# Altium integrated library Capacitors - Ceramic - 0201.IntLib: 1723 symbols (part 18 of 38)
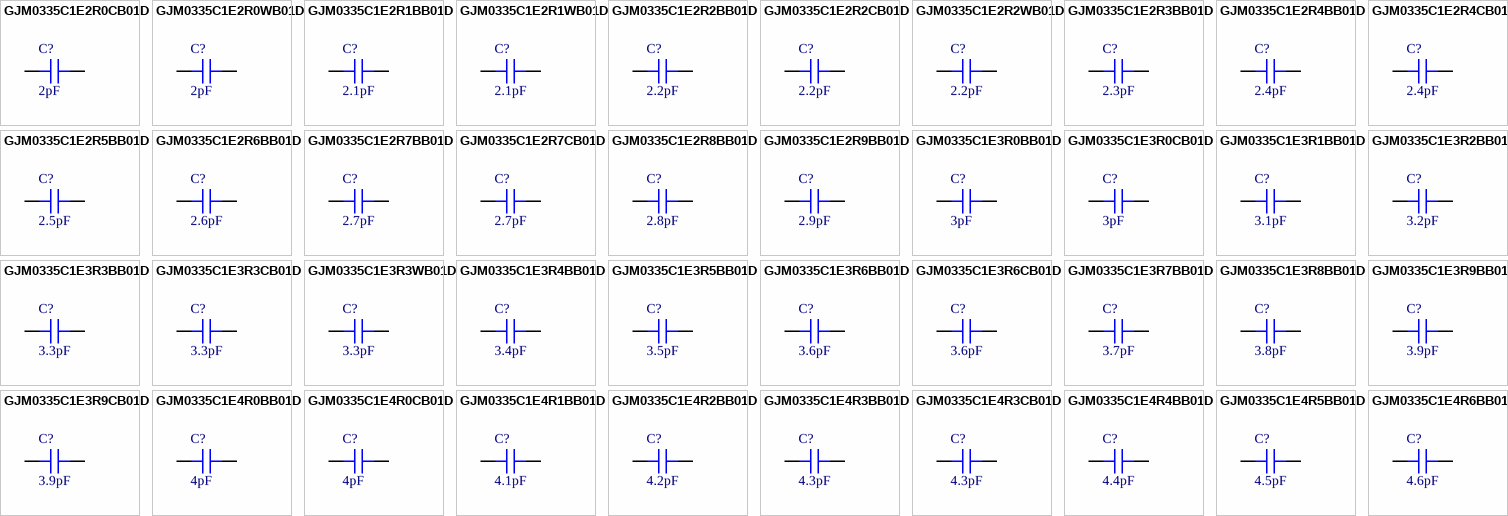
[diagram p60: symbols GJM0335C1E2R0CB01D to GJM0335C1E4R6BB01D]

## GJM0335C1E3R3BB01D
designator C?, comment 3.3pF
CAP CER 3.3PF 25V C0G/NP0 0201; Part Number: GJM0335C1E3R3BB01D; Manufacturer: Murata Electronics; Temperature Coefficient: C0G, NP0; Tolerance: ±0.1pF; Value: 3.3pF; Applications: RF, Microwave, High Frequency; Capacitance: 3.3pF; ComponentLink1Description: Datasheet; ComponentLink1URL: https://search.murata.co.jp/Ceramy/image/img/A01X/G101/ENG/GJM0335C1E3R3BB01-01.pdf; ComponentLink2Description: DigiKey Link; ComponentLink2URL: http://digikey.com/product-detail/en/murata-electronics/GJM0335C1E3R3BB01D/490-12594-1-ND/5797575; Device Package: 0201 (0603 Metric); Features: High Q, Low Loss; LastUpdated: 9/2/2020 12:58:31 AM; Lifecycle Status: Active; Minimum Order: 1; Mounting Type: Surface Mount, MLCC; Operating Temperature: -55°C ~ 125°C; Package / Case: 0201 (0603 Metric); Packaging: TapeAndReel; PartId: 1270; Part Status: Active; Price: 0.02; Series: GJM; Size / Dimension: 0.024" L x 0.012" W (0.60mm x 0.30mm); Supplier 1: DigiKey; Supplier Part Number 1: 490-12594-1-ND; Thickness (Max): 0.013" (0.33mm); Voltage - Rated: 25V
footprint CAP 0201_0603
pins: 1, 2

## GJM0335C1E3R3CB01D
designator C?, comment 3.3pF
CAP CER 3.3PF 25V C0G/NP0 0201; Part Number: GJM0335C1E3R3CB01D; Manufacturer: Murata Electronics; Temperature Coefficient: C0G, NP0; Tolerance: ±0.25pF; Value: 3.3pF; Applications: RF, Microwave, High Frequency; Capacitance: 3.3pF; ComponentLink1Description: Datasheet; ComponentLink1URL: https://search.murata.co.jp/Ceramy/image/img/A01X/G101/ENG/GJM0335C1E3R3CB01-01.pdf; ComponentLink2Description: DigiKey Link; ComponentLink2URL: http://digikey.com/product-detail/en/murata-electronics/GJM0335C1E3R3CB01D/490-3065-1-ND/702331; Device Package: 0201 (0603 Metric); Features: High Q, Low Loss; LastUpdated: 9/2/2020 12:58:07 AM; Lifecycle Status: Active; Minimum Order: 1; Mounting Type: Surface Mount, MLCC; Operating Temperature: -55°C ~ 125°C; Package / Case: 0201 (0603 Metric); Packaging: TapeAndReel; PartId: 1525; Part Status: Active; Price: 0.01; Series: GJM; Size / Dimension: 0.024" L x 0.012" W (0.60mm x 0.30mm); Supplier 1: DigiKey; Supplier Part Number 1: 490-3065-1-ND; Thickness (Max): 0.013" (0.33mm); Voltage - Rated: 25V
footprint CAP 0201_0603
pins: 1, 2

## GJM0335C1E3R3WB01D
designator C?, comment 3.3pF
CAP CER 3.3PF 25V C0G/NP0 0201; Part Number: GJM0335C1E3R3WB01D; Manufacturer: Murata Electronics; Temperature Coefficient: C0G, NP0; Tolerance: ±0.05pF; Value: 3.3pF; Applications: RF, Microwave, High Frequency; Capacitance: 3.3pF; ComponentLink1Description: Datasheet; ComponentLink1URL: https://search.murata.co.jp/Ceramy/image/img/A01X/G101/ENG/GJM0335C1E3R3WB01-01.pdf; ComponentLink2Description: DigiKey Link; ComponentLink2URL: http://digikey.com/product-detail/en/murata-electronics/GJM0335C1E3R3WB01D/490-17792-1-ND/8540028; Device Package: 0201 (0603 Metric); Features: High Q, Low Loss; LastUpdated: 9/2/2020 12:58:24 AM; Lifecycle Status: Active; Minimum Order: 1; Mounting Type: Surface Mount, MLCC; Operating Temperature: -55°C ~ 125°C; Package / Case: 0201 (0603 Metric); Packaging: TapeAndReel; PartId: 1339; Part Status: Active; Price: 0.03; Series: GJM; Size / Dimension: 0.024" L x 0.012" W (0.60mm x 0.30mm); Supplier 1: DigiKey; Supplier Part Number 1: 490-17792-1-ND; Thickness (Max): 0.013" (0.33mm); Voltage - Rated: 25V
footprint CAP 0201_0603
pins: 1, 2

## GJM0335C1E3R4BB01D
designator C?, comment 3.4pF
CAP CER 3.4PF 25V C0G/NP0 0201; Part Number: GJM0335C1E3R4BB01D; Manufacturer: Murata Electronics; Temperature Coefficient: C0G, NP0; Tolerance: ±0.1pF; Value: 3.4pF; Applications: RF, Microwave, High Frequency; Capacitance: 3.4pF; ComponentLink1Description: Datasheet; ComponentLink1URL: https://search.murata.co.jp/Ceramy/image/img/A01X/G101/ENG/GJM0335C1E3R4BB01-01.pdf; ComponentLink2Description: DigiKey Link; ComponentLink2URL: http://digikey.com/product-detail/en/murata-electronics/GJM0335C1E3R4BB01D/490-17234-1-ND/7602233; Device Package: 0201 (0603 Metric); Features: High Q, Low Loss; LastUpdated: 9/2/2020 12:59:22 AM; Lifecycle Status: Active; Minimum Order: 1; Mounting Type: Surface Mount, MLCC; Operating Temperature: -55°C ~ 125°C; Package / Case: 0201 (0603 Metric); Packaging: TapeAndReel; PartId: 670; Part Status: Active; Price: 0.01; Series: GJM; Size / Dimension: 0.024" L x 0.012" W (0.60mm x 0.30mm); Supplier 1: DigiKey; Supplier Part Number 1: 490-17234-1-ND; Thickness (Max): 0.013" (0.33mm); Voltage - Rated: 25V
footprint CAP 0201_0603
pins: 1, 2

## GJM0335C1E3R5BB01D
designator C?, comment 3.5pF
CAP CER 3.5PF 25V C0G/NP0 0201; Part Number: GJM0335C1E3R5BB01D; Manufacturer: Murata Electronics; Temperature Coefficient: C0G, NP0; Tolerance: ±0.1pF; Value: 3.5pF; Applications: RF, Microwave, High Frequency; Capacitance: 3.5pF; ComponentLink1Description: Datasheet; ComponentLink1URL: https://search.murata.co.jp/Ceramy/image/img/A01X/G101/ENG/GJM0335C1E3R5BB01-01.pdf; ComponentLink2Description: DigiKey Link; ComponentLink2URL: http://digikey.com/product-detail/en/murata-electronics/GJM0335C1E3R5BB01D/490-17235-1-ND/7602234; Device Package: 0201 (0603 Metric); Features: High Q, Low Loss; LastUpdated: 9/2/2020 12:59:20 AM; Lifecycle Status: Active; Minimum Order: 1; Mounting Type: Surface Mount, MLCC; Operating Temperature: -55°C ~ 125°C; Package / Case: 0201 (0603 Metric); Packaging: TapeAndReel; PartId: 697; Part Status: Active; Price: 0.01; Series: GJM; Size / Dimension: 0.024" L x 0.012" W (0.60mm x 0.30mm); Supplier 1: DigiKey; Supplier Part Number 1: 490-17235-1-ND; Thickness (Max): 0.013" (0.33mm); Voltage - Rated: 25V
footprint CAP 0201_0603
pins: 1, 2

## GJM0335C1E3R6BB01D
designator C?, comment 3.6pF
CAP CER 3.6PF 25V C0G/NP0 0201; Part Number: GJM0335C1E3R6BB01D; Manufacturer: Murata Electronics; Temperature Coefficient: C0G, NP0; Tolerance: ±0.1pF; Value: 3.6pF; Applications: RF, Microwave, High Frequency; Capacitance: 3.6pF; ComponentLink1Description: Datasheet; ComponentLink1URL: https://search.murata.co.jp/Ceramy/image/img/A01X/G101/ENG/GJM0335C1E3R6BB01-01.pdf; ComponentLink2Description: DigiKey Link; ComponentLink2URL: http://digikey.com/product-detail/en/murata-electronics/GJM0335C1E3R6BB01D/490-11180-1-ND/5333020; Device Package: 0201 (0603 Metric); Features: High Q, Low Loss; LastUpdated: 9/2/2020 12:58:32 AM; Lifecycle Status: Active; Minimum Order: 1; Mounting Type: Surface Mount, MLCC; Operating Temperature: -55°C ~ 125°C; Package / Case: 0201 (0603 Metric); Packaging: TapeAndReel; PartId: 1255; Part Status: Active; Price: 0.01; Series: GJM; Size / Dimension: 0.024" L x 0.012" W (0.60mm x 0.30mm); Supplier 1: DigiKey; Supplier Part Number 1: 490-11180-1-ND; Thickness (Max): 0.013" (0.33mm); Voltage - Rated: 25V
footprint CAP 0201_0603
pins: 1, 2

## GJM0335C1E3R6CB01D
designator C?, comment 3.6pF
CAP CER 3.6PF 25V C0G/NP0 0201; Part Number: GJM0335C1E3R6CB01D; Manufacturer: Murata Electronics; Temperature Coefficient: C0G, NP0; Tolerance: ±0.25pF; Value: 3.6pF; Applications: RF, Microwave, High Frequency; Capacitance: 3.6pF; ComponentLink1Description: Datasheet; ComponentLink1URL: https://search.murata.co.jp/Ceramy/image/img/A01X/G101/ENG/GJM0335C1E3R6CB01-01.pdf; ComponentLink2Description: DigiKey Link; ComponentLink2URL: http://digikey.com/product-detail/en/murata-electronics/GJM0335C1E3R6CB01D/490-3066-1-ND/702332; Device Package: 0201 (0603 Metric); Features: High Q, Low Loss; LastUpdated: 9/2/2020 12:58:21 AM; Lifecycle Status: Active; Minimum Order: 1; Mounting Type: Surface Mount, MLCC; Operating Temperature: -55°C ~ 125°C; Package / Case: 0201 (0603 Metric); Packaging: TapeAndReel; PartId: 1373; Part Status: Active; Price: 0.01; Series: GJM; Size / Dimension: 0.024" L x 0.012" W (0.60mm x 0.30mm); Supplier 1: DigiKey; Supplier Part Number 1: 490-3066-1-ND; Thickness (Max): 0.013" (0.33mm); Voltage - Rated: 25V
footprint CAP 0201_0603
pins: 1, 2

## GJM0335C1E3R7BB01D
designator C?, comment 3.7pF
CAP CER 3.7PF 25V C0G/NP0 0201; Part Number: GJM0335C1E3R7BB01D; Manufacturer: Murata Electronics; Temperature Coefficient: C0G, NP0; Tolerance: ±0.1pF; Value: 3.7pF; Applications: RF, Microwave, High Frequency; Capacitance: 3.7pF; ComponentLink1Description: Datasheet; ComponentLink1URL: https://psearch.en.murata.com/capacitor/product/GJM0335C1E3R7BB01%23.pdf; ComponentLink2Description: DigiKey Link; ComponentLink2URL: http://digikey.com/product-detail/en/murata-electronics/GJM0335C1E3R7BB01D/490-17237-1-ND/7602236; Device Package: 0201 (0603 Metric); Features: High Q, Low Loss; LastUpdated: 9/2/2020 12:58:47 AM; Lifecycle Status: Active; Minimum Order: 1; Mounting Type: Surface Mount, MLCC; Operating Temperature: -55°C ~ 125°C; Package / Case: 0201 (0603 Metric); Packaging: TapeAndReel; PartId: 1081; Part Status: Active; Price: 0.01; Series: GJM; Size / Dimension: 0.024" L x 0.012" W (0.60mm x 0.30mm); Supplier 1: DigiKey; Supplier Part Number 1: 490-17237-1-ND; Thickness (Max): 0.013" (0.33mm); Voltage - Rated: 25V
footprint CAP 0201_0603
pins: 1, 2

## GJM0335C1E3R8BB01D
designator C?, comment 3.8pF
CAP CER 3.8PF 25V C0G/NP0 0201; Part Number: GJM0335C1E3R8BB01D; Manufacturer: Murata Electronics; Temperature Coefficient: C0G, NP0; Tolerance: ±0.1pF; Value: 3.8pF; Applications: RF, Microwave, High Frequency; Capacitance: 3.8pF; ComponentLink1Description: Datasheet; ComponentLink1URL: https://search.murata.co.jp/Ceramy/image/img/A01X/G101/ENG/GJM0335C1E3R8BB01-01.pdf; ComponentLink2Description: DigiKey Link; ComponentLink2URL: http://digikey.com/product-detail/en/murata-electronics/GJM0335C1E3R8BB01D/490-17238-1-ND/7602237; Device Package: 0201 (0603 Metric); Features: High Q, Low Loss; LastUpdated: 9/2/2020 12:59:22 AM; Lifecycle Status: Active; Minimum Order: 1; Mounting Type: Surface Mount, MLCC; Operating Temperature: -55°C ~ 125°C; Package / Case: 0201 (0603 Metric); Packaging: TapeAndReel; PartId: 675; Part Status: Active; Price: 0.01; Series: GJM; Size / Dimension: 0.024" L x 0.012" W (0.60mm x 0.30mm); Supplier 1: DigiKey; Supplier Part Number 1: 490-17238-1-ND; Thickness (Max): 0.013" (0.33mm); Voltage - Rated: 25V
footprint CAP 0201_0603
pins: 1, 2

## GJM0335C1E3R9BB01D
designator C?, comment 3.9pF
CAP CER 3.9PF 25V C0G/NP0 0201; Part Number: GJM0335C1E3R9BB01D; Manufacturer: Murata Electronics; Temperature Coefficient: C0G, NP0; Tolerance: ±0.1pF; Value: 3.9pF; Applications: RF, Microwave, High Frequency; Capacitance: 3.9pF; ComponentLink1Description: Datasheet; ComponentLink1URL: https://search.murata.co.jp/Ceramy/image/img/A01X/G101/ENG/GJM0335C1E3R9BB01-01.pdf; ComponentLink2Description: DigiKey Link; ComponentLink2URL: http://digikey.com/product-detail/en/murata-electronics/GJM0335C1E3R9BB01D/490-11181-1-ND/5333021; Device Package: 0201 (0603 Metric); Features: High Q, Low Loss; LastUpdated: 9/2/2020 12:58:32 AM; Lifecycle Status: Active; Minimum Order: 1; Mounting Type: Surface Mount, MLCC; Operating Temperature: -55°C ~ 125°C; Package / Case: 0201 (0603 Metric); Packaging: TapeAndReel; PartId: 1256; Part Status: Active; Price: 0.01; Series: GJM; Size / Dimension: 0.024" L x 0.012" W (0.60mm x 0.30mm); Supplier 1: DigiKey; Supplier Part Number 1: 490-11181-1-ND; Thickness (Max): 0.013" (0.33mm); Voltage - Rated: 25V
footprint CAP 0201_0603
pins: 1, 2

## GJM0335C1E3R9CB01D
designator C?, comment 3.9pF
CAP CER 3.9PF 25V C0G/NP0 0201; Part Number: GJM0335C1E3R9CB01D; Manufacturer: Murata Electronics; Temperature Coefficient: C0G, NP0; Tolerance: ±0.25pF; Value: 3.9pF; Applications: RF, Microwave, High Frequency; Capacitance: 3.9pF; ComponentLink1Description: Datasheet; ComponentLink1URL: https://search.murata.co.jp/Ceramy/image/img/A01X/G101/ENG/GJM0335C1E3R9CB01-01.pdf; ComponentLink2Description: DigiKey Link; ComponentLink2URL: http://digikey.com/product-detail/en/murata-electronics/GJM0335C1E3R9CB01D/490-3067-1-ND/702333; Device Package: 0201 (0603 Metric); Features: High Q, Low Loss; LastUpdated: 9/2/2020 12:58:07 AM; Lifecycle Status: Active; Minimum Order: 1; Mounting Type: Surface Mount, MLCC; Operating Temperature: -55°C ~ 125°C; Package / Case: 0201 (0603 Metric); Packaging: TapeAndReel; PartId: 1530; Part Status: Active; Price: 0.01; Series: GJM; Size / Dimension: 0.024" L x 0.012" W (0.60mm x 0.30mm); Supplier 1: DigiKey; Supplier Part Number 1: 490-3067-1-ND; Thickness (Max): 0.013" (0.33mm); Voltage - Rated: 25V
footprint CAP 0201_0603
pins: 1, 2

## GJM0335C1E4R0BB01D
designator C?, comment 4pF
CAP CER 4PF 25V C0G/NP0 0201; Part Number: GJM0335C1E4R0BB01D; Manufacturer: Murata Electronics; Temperature Coefficient: C0G, NP0; Tolerance: ±0.1pF; Value: 4pF; Applications: RF, Microwave, High Frequency; Capacitance: 4pF; ComponentLink1Description: Datasheet; ComponentLink1URL: https://search.murata.co.jp/Ceramy/image/img/A01X/G101/ENG/GJM0335C1E4R0BB01-01.pdf; ComponentLink2Description: DigiKey Link; ComponentLink2URL: http://digikey.com/product-detail/en/murata-electronics/GJM0335C1E4R0BB01D/490-12595-1-ND/5797576; Device Package: 0201 (0603 Metric); Features: High Q, Low Loss; LastUpdated: 9/2/2020 12:58:33 AM; Lifecycle Status: Active; Minimum Order: 1; Mounting Type: Surface Mount, MLCC; Operating Temperature: -55°C ~ 125°C; Package / Case: 0201 (0603 Metric); Packaging: TapeAndReel; PartId: 1244; Part Status: Active; Price: 0.01; Series: GJM; Size / Dimension: 0.024" L x 0.012" W (0.60mm x 0.30mm); Supplier 1: DigiKey; Supplier Part Number 1: 490-12595-1-ND; Thickness (Max): 0.013" (0.33mm); Voltage - Rated: 25V
footprint CAP 0201_0603
pins: 1, 2

## GJM0335C1E4R0CB01D
designator C?, comment 4pF
CAP CER 4PF 25V C0G/NP0 0201; Part Number: GJM0335C1E4R0CB01D; Manufacturer: Murata Electronics; Temperature Coefficient: C0G, NP0; Tolerance: ±0.25pF; Value: 4pF; Applications: RF, Microwave, High Frequency; Capacitance: 4pF; ComponentLink1Description: Datasheet; ComponentLink1URL: https://search.murata.co.jp/Ceramy/image/img/A01X/G101/ENG/GJM0335C1E4R0CB01-01.pdf; ComponentLink2Description: DigiKey Link; ComponentLink2URL: http://digikey.com/product-detail/en/murata-electronics/GJM0335C1E4R0CB01D/490-3068-1-ND/702334; Device Package: 0201 (0603 Metric); Features: High Q, Low Loss; LastUpdated: 9/2/2020 12:58:06 AM; Lifecycle Status: Active; Minimum Order: 1; Mounting Type: Surface Mount, MLCC; Operating Temperature: -55°C ~ 125°C; Package / Case: 0201 (0603 Metric); Packaging: TapeAndReel; PartId: 1536; Part Status: Active; Price: 0.01; Series: GJM; Size / Dimension: 0.024" L x 0.012" W (0.60mm x 0.30mm); Supplier 1: DigiKey; Supplier Part Number 1: 490-3068-1-ND; Thickness (Max): 0.013" (0.33mm); Voltage - Rated: 25V
footprint CAP 0201_0603
pins: 1, 2

## GJM0335C1E4R1BB01D
designator C?, comment 4.1pF
CAP CER 4.1PF 25V C0G/NP0 0201; Part Number: GJM0335C1E4R1BB01D; Manufacturer: Murata Electronics; Temperature Coefficient: C0G, NP0; Tolerance: ±0.1pF; Value: 4.1pF; Applications: RF, Microwave, High Frequency; Capacitance: 4.1pF; ComponentLink1Description: Datasheet; ComponentLink1URL: https://search.murata.co.jp/Ceramy/image/img/A01X/G101/ENG/GJM0335C1E4R1BB01-01.pdf; ComponentLink2Description: DigiKey Link; ComponentLink2URL: http://digikey.com/product-detail/en/murata-electronics/GJM0335C1E4R1BB01D/490-17241-1-ND/7602240; Device Package: 0201 (0603 Metric); Features: High Q, Low Loss; LastUpdated: 9/2/2020 12:59:41 AM; Lifecycle Status: Active; Minimum Order: 1; Mounting Type: Surface Mount, MLCC; Operating Temperature: -55°C ~ 125°C; Package / Case: 0201 (0603 Metric); Packaging: TapeAndReel; PartId: 449; Part Status: Active; Price: 0.01; Series: GJM; Size / Dimension: 0.024" L x 0.012" W (0.60mm x 0.30mm); Supplier 1: DigiKey; Supplier Part Number 1: 490-17241-1-ND; Thickness (Max): 0.013" (0.33mm); Voltage - Rated: 25V
footprint CAP 0201_0603
pins: 1, 2

## GJM0335C1E4R2BB01D
designator C?, comment 4.2pF
CAP CER 4.2PF 25V C0G/NP0 0201; Part Number: GJM0335C1E4R2BB01D; Manufacturer: Murata Electronics; Temperature Coefficient: C0G, NP0; Tolerance: ±0.1pF; Value: 4.2pF; Applications: RF, Microwave, High Frequency; Capacitance: 4.2pF; ComponentLink1Description: Datasheet; ComponentLink1URL: https://psearch.en.murata.com/capacitor/product/GJM0335C1E4R2BB01%23.pdf; ComponentLink2Description: DigiKey Link; ComponentLink2URL: http://digikey.com/product-detail/en/murata-electronics/GJM0335C1E4R2BB01D/490-17242-1-ND/7602241; Device Package: 0201 (0603 Metric); Features: High Q, Low Loss; LastUpdated: 9/2/2020 12:59:21 AM; Lifecycle Status: Active; Minimum Order: 1; Mounting Type: Surface Mount, MLCC; Operating Temperature: -55°C ~ 125°C; Package / Case: 0201 (0603 Metric); Packaging: TapeAndReel; PartId: 681; Part Status: Active; Price: 0.01; Series: GJM; Size / Dimension: 0.024" L x 0.012" W (0.60mm x 0.30mm); Supplier 1: DigiKey; Supplier Part Number 1: 490-17242-1-ND; Thickness (Max): 0.013" (0.33mm); Voltage - Rated: 25V
footprint CAP 0201_0603
pins: 1, 2

## GJM0335C1E4R3BB01D
designator C?, comment 4.3pF
CAP CER 4.3PF 25V C0G/NP0 0201; Part Number: GJM0335C1E4R3BB01D; Manufacturer: Murata Electronics; Temperature Coefficient: C0G, NP0; Tolerance: ±0.1pF; Value: 4.3pF; Applications: RF, Microwave, High Frequency; Capacitance: 4.3pF; ComponentLink1Description: Datasheet; ComponentLink1URL: https://psearch.en.murata.com/capacitor/product/GJM0335C1E4R3BB01%23.pdf; ComponentLink2Description: DigiKey Link; ComponentLink2URL: http://digikey.com/product-detail/en/murata-electronics/GJM0335C1E4R3BB01D/490-17243-1-ND/7602242; Device Package: 0201 (0603 Metric); Features: High Q, Low Loss; LastUpdated: 9/2/2020 12:59:39 AM; Lifecycle Status: Active; Minimum Order: 1; Mounting Type: Surface Mount, MLCC; Operating Temperature: -55°C ~ 125°C; Package / Case: 0201 (0603 Metric); Packaging: TapeAndReel; PartId: 471; Part Status: Active; Price: 0.02; Series: GJM; Size / Dimension: 0.024" L x 0.012" W (0.60mm x 0.30mm); Supplier 1: DigiKey; Supplier Part Number 1: 490-17243-1-ND; Thickness (Max): 0.013" (0.33mm); Voltage - Rated: 25V
footprint CAP 0201_0603
pins: 1, 2

## GJM0335C1E4R3CB01D
designator C?, comment 4.3pF
CAP CER 4.3PF 25V C0G/NP0 0201; Part Number: GJM0335C1E4R3CB01D; Manufacturer: Murata Electronics; Temperature Coefficient: C0G, NP0; Tolerance: ±0.25pF; Value: 4.3pF; Applications: RF, Microwave, High Frequency; Capacitance: 4.3pF; ComponentLink1Description: Datasheet; ComponentLink1URL: https://search.murata.co.jp/Ceramy/image/img/A01X/G101/ENG/GJM0335C1E4R3CB01-01.pdf; ComponentLink2Description: DigiKey Link; ComponentLink2URL: http://digikey.com/product-detail/en/murata-electronics/GJM0335C1E4R3CB01D/490-3069-1-ND/702335; Device Package: 0201 (0603 Metric); Features: High Q, Low Loss; LastUpdated: 9/2/2020 12:58:06 AM; Lifecycle Status: Active; Minimum Order: 1; Mounting Type: Surface Mount, MLCC; Operating Temperature: -55°C ~ 125°C; Package / Case: 0201 (0603 Metric); Packaging: TapeAndReel; PartId: 1537; Part Status: Active; Price: 0.01; Series: GJM; Size / Dimension: 0.024" L x 0.012" W (0.60mm x 0.30mm); Supplier 1: DigiKey; Supplier Part Number 1: 490-3069-1-ND; Thickness (Max): 0.013" (0.33mm); Voltage - Rated: 25V
footprint CAP 0201_0603
pins: 1, 2

## GJM0335C1E4R4BB01D
designator C?, comment 4.4pF
CAP CER 4.4PF 25V C0G/NP0 0201; Part Number: GJM0335C1E4R4BB01D; Manufacturer: Murata Electronics; Temperature Coefficient: C0G, NP0; Tolerance: ±0.1pF; Value: 4.4pF; Applications: RF, Microwave, High Frequency; Capacitance: 4.4pF; ComponentLink1Description: Datasheet; ComponentLink1URL: https://psearch.en.murata.com/capacitor/product/GJM0335C1E4R4BB01%23.pdf; ComponentLink2Description: DigiKey Link; ComponentLink2URL: http://digikey.com/product-detail/en/murata-electronics/GJM0335C1E4R4BB01D/490-17244-1-ND/7602243; Device Package: 0201 (0603 Metric); Features: High Q, Low Loss; LastUpdated: 9/2/2020 12:59:21 AM; Lifecycle Status: Active; Minimum Order: 1; Mounting Type: Surface Mount, MLCC; Operating Temperature: -55°C ~ 125°C; Package / Case: 0201 (0603 Metric); Packaging: TapeAndReel; PartId: 679; Part Status: Active; Price: 0.01; Series: GJM; Size / Dimension: 0.024" L x 0.012" W (0.60mm x 0.30mm); Supplier 1: DigiKey; Supplier Part Number 1: 490-17244-1-ND; Thickness (Max): 0.013" (0.33mm); Voltage - Rated: 25V
footprint CAP 0201_0603
pins: 1, 2

## GJM0335C1E4R5BB01D
designator C?, comment 4.5pF
CAP CER 4.5PF 25V C0G/NP0 0201; Part Number: GJM0335C1E4R5BB01D; Manufacturer: Murata Electronics; Temperature Coefficient: C0G, NP0; Tolerance: ±0.1pF; Value: 4.5pF; Applications: RF, Microwave, High Frequency; Capacitance: 4.5pF; ComponentLink1Description: Datasheet; ComponentLink1URL: https://psearch.en.murata.com/capacitor/product/GJM0335C1E4R5BB01%23.pdf; ComponentLink2Description: DigiKey Link; ComponentLink2URL: http://digikey.com/product-detail/en/murata-electronics/GJM0335C1E4R5BB01D/490-17245-1-ND/7602244; Device Package: 0201 (0603 Metric); Features: High Q, Low Loss; LastUpdated: 9/2/2020 12:59:19 AM; Lifecycle Status: Active; Minimum Order: 1; Mounting Type: Surface Mount, MLCC; Operating Temperature: -55°C ~ 125°C; Package / Case: 0201 (0603 Metric); Packaging: TapeAndReel; PartId: 700; Part Status: Active; Price: 0.01; Series: GJM; Size / Dimension: 0.024" L x 0.012" W (0.60mm x 0.30mm); Supplier 1: DigiKey; Supplier Part Number 1: 490-17245-1-ND; Thickness (Max): 0.013" (0.33mm); Voltage - Rated: 25V
footprint CAP 0201_0603
pins: 1, 2

## GJM0335C1E4R6BB01D
designator C?, comment 4.6pF
CAP CER 4.6PF 25V C0G/NP0 0201; Part Number: GJM0335C1E4R6BB01D; Manufacturer: Murata Electronics; Temperature Coefficient: C0G, NP0; Tolerance: ±0.1pF; Value: 4.6pF; Applications: RF, Microwave, High Frequency; Capacitance: 4.6pF; ComponentLink1Description: Datasheet; ComponentLink1URL: https://www.murata.com/~/media/webrenewal/support/library/catalog/products/capacitor/mlcc/c02e.ashx?la=en-us; ComponentLink2Description: DigiKey Link; ComponentLink2URL: http://digikey.com/product-detail/en/murata-electronics/GJM0335C1E4R6BB01D/490-17246-1-ND/7602245; Device Package: 0201 (0603 Metric); Features: High Q, Low Loss; LastUpdated: 9/2/2020 12:59:23 AM; Lifecycle Status: Active; Minimum Order: 1; Mounting Type: Surface Mount, MLCC; Operating Temperature: -55°C ~ 125°C; Package / Case: 0201 (0603 Metric); Packaging: TapeAndReel; PartId: 661; Part Status: Active; Price: 0.01; Series: GJM; Size / Dimension: 0.024" L x 0.012" W (0.60mm x 0.30mm); Supplier 1: DigiKey; Supplier Part Number 1: 490-17246-1-ND; Thickness (Max): 0.013" (0.33mm); Voltage - Rated: 25V
footprint CAP 0201_0603
pins: 1, 2

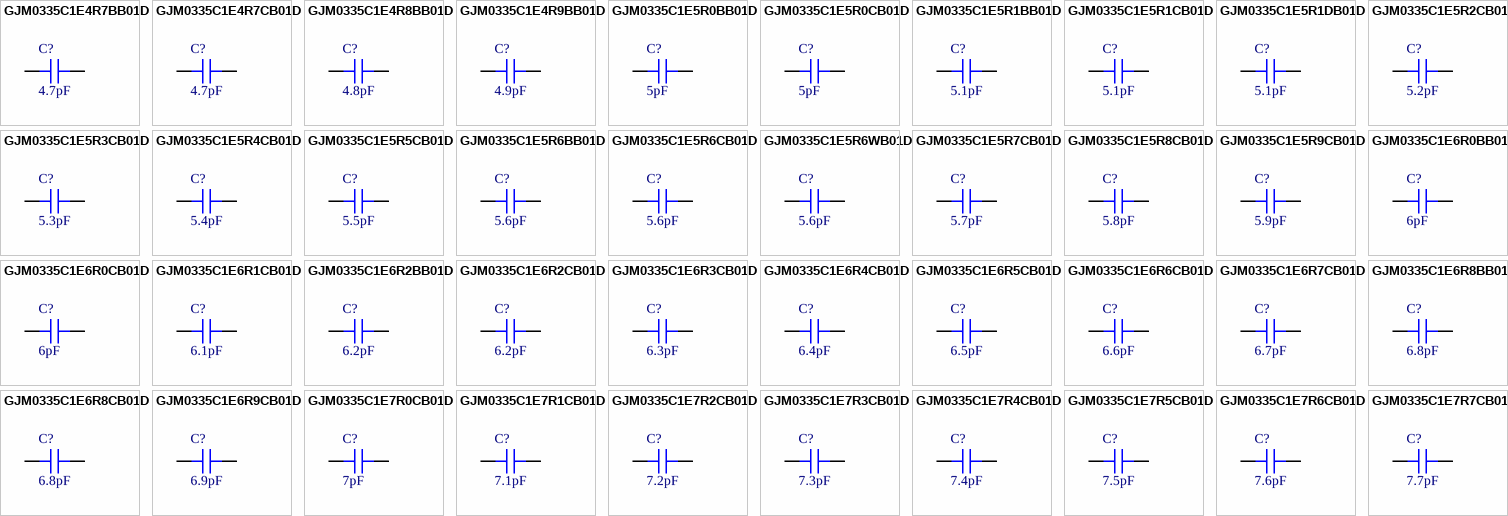
[diagram p20: symbols GJM0335C1E4R7BB01D to GJM0335C1E7R7CB01D]

## GJM0335C1E4R7BB01D
designator C?, comment 4.7pF
CAP CER 4.7PF 25V C0G/NP0 0201; Part Number: GJM0335C1E4R7BB01D; Manufacturer: Murata Electronics; Temperature Coefficient: C0G, NP0; Tolerance: ±0.1pF; Value: 4.7pF; Applications: RF, Microwave, High Frequency; Capacitance: 4.7pF; ComponentLink1Description: Datasheet; ComponentLink1URL: https://search.murata.co.jp/Ceramy/image/img/A01X/G101/ENG/GJM0335C1E4R7BB01-01.pdf; ComponentLink2Description: DigiKey Link; ComponentLink2URL: http://digikey.com/product-detail/en/murata-electronics/GJM0335C1E4R7BB01D/490-8072-1-ND/4380358; Device Package: 0201 (0603 Metric); Features: High Q, Low Loss; LastUpdated: 9/2/2020 12:58:31 AM; Lifecycle Status: Active; Minimum Order: 1; Mounting Type: Surface Mount, MLCC; Operating Temperature: -55°C ~ 125°C; Package / Case: 0201 (0603 Metric); Packaging: TapeAndReel; PartId: 1267; Part Status: Active; Price: 0.02; Series: GJM; Size / Dimension: 0.024" L x 0.012" W (0.60mm x 0.30mm); Supplier 1: DigiKey; Supplier Part Number 1: 490-8072-1-ND; Thickness (Max): 0.013" (0.33mm); Voltage - Rated: 25V
footprint CAP 0201_0603
pins: 1, 2

## GJM0335C1E4R7CB01D
designator C?, comment 4.7pF
CAP CER 4.7PF 25V C0G/NP0 0201; Part Number: GJM0335C1E4R7CB01D; Manufacturer: Murata Electronics; Temperature Coefficient: C0G, NP0; Tolerance: ±0.25pF; Value: 4.7pF; Applications: RF, Microwave, High Frequency; Capacitance: 4.7pF; ComponentLink1Description: Datasheet; ComponentLink1URL: https://search.murata.co.jp/Ceramy/image/img/A01X/G101/ENG/GJM0335C1E4R7CB01-01.pdf; ComponentLink2Description: DigiKey Link; ComponentLink2URL: http://digikey.com/product-detail/en/murata-electronics/GJM0335C1E4R7CB01D/490-3070-1-ND/702336; Device Package: 0201 (0603 Metric); Features: High Q, Low Loss; LastUpdated: 9/2/2020 12:58:07 AM; Lifecycle Status: Active; Minimum Order: 1; Mounting Type: Surface Mount, MLCC; Operating Temperature: -55°C ~ 125°C; Package / Case: 0201 (0603 Metric); Packaging: TapeAndReel; PartId: 1524; Part Status: Active; Price: 0.01; Series: GJM; Size / Dimension: 0.024" L x 0.012" W (0.60mm x 0.30mm); Supplier 1: DigiKey; Supplier Part Number 1: 490-3070-1-ND; Thickness (Max): 0.013" (0.33mm); Voltage - Rated: 25V
footprint CAP 0201_0603
pins: 1, 2

## GJM0335C1E4R8BB01D
designator C?, comment 4.8pF
CAP CER 4.8PF 25V C0G/NP0 0201; Part Number: GJM0335C1E4R8BB01D; Manufacturer: Murata Electronics; Temperature Coefficient: C0G, NP0; Tolerance: ±0.1pF; Value: 4.8pF; Applications: RF, Microwave, High Frequency; Capacitance: 4.8pF; ComponentLink1Description: Datasheet; ComponentLink1URL: https://psearch.en.murata.com/capacitor/product/GJM0335C1E4R8BB01%23.pdf; ComponentLink2Description: DigiKey Link; ComponentLink2URL: http://digikey.com/product-detail/en/murata-electronics/GJM0335C1E4R8BB01D/490-17248-1-ND/7602247; Device Package: 0201 (0603 Metric); Features: High Q, Low Loss; LastUpdated: 9/2/2020 12:59:21 AM; Lifecycle Status: Active; Minimum Order: 1; Mounting Type: Surface Mount, MLCC; Operating Temperature: -55°C ~ 125°C; Package / Case: 0201 (0603 Metric); Packaging: TapeAndReel; PartId: 676; Part Status: Active; Price: 0.01; Series: GJM; Size / Dimension: 0.024" L x 0.012" W (0.60mm x 0.30mm); Supplier 1: DigiKey; Supplier Part Number 1: 490-17248-1-ND; Thickness (Max): 0.013" (0.33mm); Voltage - Rated: 25V
footprint CAP 0201_0603
pins: 1, 2

## GJM0335C1E4R9BB01D
designator C?, comment 4.9pF
CAP CER 4.9PF 25V C0G/NP0 0201; Part Number: GJM0335C1E4R9BB01D; Manufacturer: Murata Electronics; Temperature Coefficient: C0G, NP0; Tolerance: ±0.1pF; Value: 4.9pF; Applications: RF, Microwave, High Frequency; Capacitance: 4.9pF; ComponentLink1Description: Datasheet; ComponentLink1URL: https://psearch.en.murata.com/capacitor/product/GJM0335C1E4R9BB01%23.pdf; ComponentLink2Description: DigiKey Link; ComponentLink2URL: http://digikey.com/product-detail/en/murata-electronics/GJM0335C1E4R9BB01D/490-17249-1-ND/7602248; Device Package: 0201 (0603 Metric); Features: High Q, Low Loss; LastUpdated: 9/2/2020 12:59:22 AM; Lifecycle Status: Active; Minimum Order: 1; Mounting Type: Surface Mount, MLCC; Operating Temperature: -55°C ~ 125°C; Package / Case: 0201 (0603 Metric); Packaging: TapeAndReel; PartId: 673; Part Status: Active; Price: 0.01; Series: GJM; Size / Dimension: 0.024" L x 0.012" W (0.60mm x 0.30mm); Supplier 1: DigiKey; Supplier Part Number 1: 490-17249-1-ND; Thickness (Max): 0.013" (0.33mm); Voltage - Rated: 25V
footprint CAP 0201_0603
pins: 1, 2

## GJM0335C1E5R0BB01D
designator C?, comment 5pF
CAP CER 5PF 25V C0G/NP0 0201; Part Number: GJM0335C1E5R0BB01D; Manufacturer: Murata Electronics; Temperature Coefficient: C0G, NP0; Tolerance: ±0.1pF; Value: 5pF; Applications: RF, Microwave, High Frequency; Capacitance: 5pF; ComponentLink1Description: Datasheet; ComponentLink1URL: https://search.murata.co.jp/Ceramy/image/img/A01X/G101/ENG/GJM0335C1E5R0BB01-01.pdf; ComponentLink2Description: DigiKey Link; ComponentLink2URL: http://digikey.com/product-detail/en/murata-electronics/GJM0335C1E5R0BB01D/490-12596-1-ND/5797577; Device Package: 0201 (0603 Metric); Features: High Q, Low Loss; LastUpdated: 9/2/2020 12:58:31 AM; Lifecycle Status: Active; Minimum Order: 1; Mounting Type: Surface Mount, MLCC; Operating Temperature: -55°C ~ 125°C; Package / Case: 0201 (0603 Metric); Packaging: TapeAndReel; PartId: 1269; Part Status: Active; Price: 0.02; Series: GJM; Size / Dimension: 0.024" L x 0.012" W (0.60mm x 0.30mm); Supplier 1: DigiKey; Supplier Part Number 1: 490-12596-1-ND; Thickness (Max): 0.013" (0.33mm); Voltage - Rated: 25V
footprint CAP 0201_0603
pins: 1, 2

## GJM0335C1E5R0CB01D
designator C?, comment 5pF
CAP CER 5PF 25V C0G/NP0 0201; Part Number: GJM0335C1E5R0CB01D; Manufacturer: Murata Electronics; Temperature Coefficient: C0G, NP0; Tolerance: ±0.25pF; Value: 5pF; Applications: RF, Microwave, High Frequency; Capacitance: 5pF; ComponentLink1Description: Datasheet; ComponentLink1URL: https://search.murata.co.jp/Ceramy/image/img/A01X/G101/ENG/GJM0335C1E5R0CB01-01.pdf; ComponentLink2Description: DigiKey Link; ComponentLink2URL: http://digikey.com/product-detail/en/murata-electronics/GJM0335C1E5R0CB01D/490-3071-1-ND/702337; Device Package: 0201 (0603 Metric); Features: High Q, Low Loss; LastUpdated: 9/2/2020 12:58:04 AM; Lifecycle Status: Active; Minimum Order: 1; Mounting Type: Surface Mount, MLCC; Operating Temperature: -55°C ~ 125°C; Package / Case: 0201 (0603 Metric); Packaging: TapeAndReel; PartId: 1560; Part Status: Active; Price: 0.01; Series: GJM; Size / Dimension: 0.024" L x 0.012" W (0.60mm x 0.30mm); Supplier 1: DigiKey; Supplier Part Number 1: 490-3071-1-ND; Thickness (Max): 0.013" (0.33mm); Voltage - Rated: 25V
footprint CAP 0201_0603
pins: 1, 2

## GJM0335C1E5R1BB01D
designator C?, comment 5.1pF
CAP CER 5.1PF 25V C0G/NP0 0201; Part Number: GJM0335C1E5R1BB01D; Manufacturer: Murata Electronics; Temperature Coefficient: C0G, NP0; Tolerance: ±0.1pF; Value: 5.1pF; Applications: RF, Microwave, High Frequency; Capacitance: 5.1pF; ComponentLink1Description: Datasheet; ComponentLink1URL: https://search.murata.co.jp/Ceramy/image/img/A01X/G101/ENG/GJM0335C1E5R1BB01-01.pdf; ComponentLink2Description: DigiKey Link; ComponentLink2URL: http://digikey.com/product-detail/en/murata-electronics/GJM0335C1E5R1BB01D/490-17793-1-ND/8540029; Device Package: 0201 (0603 Metric); Features: High Q, Low Loss; LastUpdated: 9/2/2020 1:00:02 AM; Lifecycle Status: Active; Minimum Order: 1; Mounting Type: Surface Mount, MLCC; Operating Temperature: -55°C ~ 125°C; Package / Case: 0201 (0603 Metric); Packaging: TapeAndReel; PartId: 204; Part Status: Active; Price: 0.01; Series: GJM; Size / Dimension: 0.024" L x 0.012" W (0.60mm x 0.30mm); Supplier 1: DigiKey; Supplier Part Number 1: 490-17793-1-ND; Thickness (Max): 0.013" (0.33mm); Voltage - Rated: 25V
footprint CAP 0201_0603
pins: 1, 2

## GJM0335C1E5R1CB01D
designator C?, comment 5.1pF
CAP CER 5.1PF 25V C0G/NP0 0201; Part Number: GJM0335C1E5R1CB01D; Manufacturer: Murata Electronics; Temperature Coefficient: C0G, NP0; Tolerance: ±0.25pF; Value: 5.1pF; Applications: RF, Microwave, High Frequency; Capacitance: 5.1pF; ComponentLink1Description: Datasheet; ComponentLink1URL: https://search.murata.co.jp/Ceramy/image/img/A01X/G101/ENG/GJM0335C1E5R1CB01-01.pdf; ComponentLink2Description: DigiKey Link; ComponentLink2URL: http://digikey.com/product-detail/en/murata-electronics/GJM0335C1E5R1CB01D/490-3072-1-ND/702338; Device Package: 0201 (0603 Metric); Features: High Q, Low Loss; LastUpdated: 9/2/2020 12:58:06 AM; Lifecycle Status: Active; Minimum Order: 1; Mounting Type: Surface Mount, MLCC; Operating Temperature: -55°C ~ 125°C; Package / Case: 0201 (0603 Metric); Packaging: TapeAndReel; PartId: 1538; Part Status: Active; Price: 0.01; Series: GJM; Size / Dimension: 0.024" L x 0.012" W (0.60mm x 0.30mm); Supplier 1: DigiKey; Supplier Part Number 1: 490-3072-1-ND; Thickness (Max): 0.013" (0.33mm); Voltage - Rated: 25V
footprint CAP 0201_0603
pins: 1, 2

## GJM0335C1E5R1DB01D
designator C?, comment 5.1pF
CAP CER 5.1PF 25V C0G/NP0 0201; Part Number: GJM0335C1E5R1DB01D; Manufacturer: Murata Electronics; Temperature Coefficient: C0G, NP0; Tolerance: ±0.5pF; Value: 5.1pF; Applications: RF, Microwave, High Frequency; Capacitance: 5.1pF; ComponentLink1Description: Datasheet; ComponentLink1URL: https://psearch.en.murata.com/capacitor/product/GJM0335C1E5R1DB01%23.pdf; ComponentLink2Description: DigiKey Link; ComponentLink2URL: http://digikey.com/product-detail/en/murata-electronics/GJM0335C1E5R1DB01D/490-14784-1-ND/6606390; Device Package: 0201 (0603 Metric); Features: High Q, Low Loss; LastUpdated: 9/2/2020 12:58:34 AM; Lifecycle Status: Active; Minimum Order: 1; Mounting Type: Surface Mount, MLCC; Operating Temperature: -55°C ~ 125°C; Package / Case: 0201 (0603 Metric); Packaging: TapeAndReel; PartId: 1231; Part Status: Active; Price: 0.01; Series: GJM; Size / Dimension: 0.024" L x 0.012" W (0.60mm x 0.30mm); Supplier 1: DigiKey; Supplier Part Number 1: 490-14784-1-ND; Thickness (Max): 0.013" (0.33mm); Voltage - Rated: 25V
footprint CAP 0201_0603
pins: 1, 2

## GJM0335C1E5R2CB01D
designator C?, comment 5.2pF
CAP CER 5.2PF 25V C0G/NP0 0201; Part Number: GJM0335C1E5R2CB01D; Manufacturer: Murata Electronics; Temperature Coefficient: C0G, NP0; Tolerance: ±0.25pF; Value: 5.2pF; Applications: RF, Microwave, High Frequency; Capacitance: 5.2pF; ComponentLink1Description: Datasheet; ComponentLink1URL: https://psearch.en.murata.com/capacitor/product/GJM0335C1E5R2CB01%23.pdf; ComponentLink2Description: DigiKey Link; ComponentLink2URL: http://digikey.com/product-detail/en/murata-electronics/GJM0335C1E5R2CB01D/490-17252-1-ND/7602251; Device Package: 0201 (0603 Metric); Features: High Q, Low Loss; LastUpdated: 9/2/2020 12:58:37 AM; Lifecycle Status: Active; Minimum Order: 1; Mounting Type: Surface Mount, MLCC; Operating Temperature: -55°C ~ 125°C; Package / Case: 0201 (0603 Metric); Packaging: TapeAndReel; PartId: 1196; Part Status: Active; Price: 0.01; Series: GJM; Size / Dimension: 0.024" L x 0.012" W (0.60mm x 0.30mm); Supplier 1: DigiKey; Supplier Part Number 1: 490-17252-1-ND; Thickness (Max): 0.013" (0.33mm); Voltage - Rated: 25V
footprint CAP 0201_0603
pins: 1, 2

## GJM0335C1E5R3CB01D
designator C?, comment 5.3pF
CAP CER 5.3PF 25V C0G/NP0 0201; Part Number: GJM0335C1E5R3CB01D; Manufacturer: Murata Electronics; Temperature Coefficient: C0G, NP0; Tolerance: ±0.25pF; Value: 5.3pF; Applications: RF, Microwave, High Frequency; Capacitance: 5.3pF; ComponentLink1Description: Datasheet; ComponentLink1URL: https://psearch.en.murata.com/capacitor/product/GJM0335C1E5R3CB01%23.pdf; ComponentLink2Description: DigiKey Link; ComponentLink2URL: http://digikey.com/product-detail/en/murata-electronics/GJM0335C1E5R3CB01D/490-17253-1-ND/7602252; Device Package: 0201 (0603 Metric); Features: High Q, Low Loss; LastUpdated: 9/2/2020 12:57:55 AM; Lifecycle Status: Active; Minimum Order: 1; Mounting Type: Surface Mount, MLCC; Operating Temperature: -55°C ~ 125°C; Package / Case: 0201 (0603 Metric); Packaging: TapeAndReel; PartId: 1659; Part Status: Active; Price: 0.01; Series: GJM; Size / Dimension: 0.024" L x 0.012" W (0.60mm x 0.30mm); Supplier 1: DigiKey; Supplier Part Number 1: 490-17253-1-ND; Thickness (Max): 0.013" (0.33mm); Voltage - Rated: 25V
footprint CAP 0201_0603
pins: 1, 2

## GJM0335C1E5R4CB01D
designator C?, comment 5.4pF
CAP CER 5.4PF 25V C0G/NP0 0201; Part Number: GJM0335C1E5R4CB01D; Manufacturer: Murata Electronics; Temperature Coefficient: C0G, NP0; Tolerance: ±0.25pF; Value: 5.4pF; Applications: RF, Microwave, High Frequency; Capacitance: 5.4pF; ComponentLink1Description: Datasheet; ComponentLink1URL: https://search.murata.co.jp/Ceramy/image/img/A01X/G101/ENG/GJM0335C1E5R4CB01-01.pdf; ComponentLink2Description: DigiKey Link; ComponentLink2URL: http://digikey.com/product-detail/en/murata-electronics/GJM0335C1E5R4CB01D/490-17254-1-ND/7602253; Device Package: 0201 (0603 Metric); Features: High Q, Low Loss; LastUpdated: 9/2/2020 1:00:05 AM; Lifecycle Status: Active; Minimum Order: 1; Mounting Type: Surface Mount, MLCC; Operating Temperature: -55°C ~ 125°C; Package / Case: 0201 (0603 Metric); Packaging: TapeAndReel; PartId: 170; Part Status: Active; Price: 0.01; Series: GJM; Size / Dimension: 0.024" L x 0.012" W (0.60mm x 0.30mm); Supplier 1: DigiKey; Supplier Part Number 1: 490-17254-1-ND; Thickness (Max): 0.013" (0.33mm); Voltage - Rated: 25V
footprint CAP 0201_0603
pins: 1, 2

## GJM0335C1E5R5CB01D
designator C?, comment 5.5pF
CAP CER 5.5PF 25V C0G/NP0 0201; Part Number: GJM0335C1E5R5CB01D; Manufacturer: Murata Electronics; Temperature Coefficient: C0G, NP0; Tolerance: ±0.25pF; Value: 5.5pF; Applications: RF, Microwave, High Frequency; Capacitance: 5.5pF; ComponentLink1Description: Datasheet; ComponentLink1URL: https://psearch.en.murata.com/capacitor/product/GJM0335C1E5R5CB01%23.pdf; ComponentLink2Description: DigiKey Link; ComponentLink2URL: http://digikey.com/product-detail/en/murata-electronics/GJM0335C1E5R5CB01D/490-17255-1-ND/7602254; Device Package: 0201 (0603 Metric); Features: High Q, Low Loss; LastUpdated: 9/2/2020 1:00:05 AM; Lifecycle Status: Active; Minimum Order: 1; Mounting Type: Surface Mount, MLCC; Operating Temperature: -55°C ~ 125°C; Package / Case: 0201 (0603 Metric); Packaging: TapeAndReel; PartId: 164; Part Status: Active; Price: 0.01; Series: GJM; Size / Dimension: 0.024" L x 0.012" W (0.60mm x 0.30mm); Supplier 1: DigiKey; Supplier Part Number 1: 490-17255-1-ND; Thickness (Max): 0.013" (0.33mm); Voltage - Rated: 25V
footprint CAP 0201_0603
pins: 1, 2

## GJM0335C1E5R6BB01D
designator C?, comment 5.6pF
CAP CER 5.6PF 25V C0G/NP0 0201; Part Number: GJM0335C1E5R6BB01D; Manufacturer: Murata Electronics; Temperature Coefficient: C0G, NP0; Tolerance: ±0.1pF; Value: 5.6pF; Applications: RF, Microwave, High Frequency; Capacitance: 5.6pF; ComponentLink1Description: Datasheet; ComponentLink1URL: https://search.murata.co.jp/Ceramy/image/img/A01X/G101/ENG/GJM0335C1E5R6BB01-01.pdf; ComponentLink2Description: DigiKey Link; ComponentLink2URL: http://digikey.com/product-detail/en/murata-electronics/GJM0335C1E5R6BB01D/490-11182-1-ND/5333022; Device Package: 0201 (0603 Metric); Features: High Q, Low Loss; LastUpdated: 9/2/2020 12:58:31 AM; Lifecycle Status: Active; Minimum Order: 1; Mounting Type: Surface Mount, MLCC; Operating Temperature: -55°C ~ 125°C; Package / Case: 0201 (0603 Metric); Packaging: TapeAndReel; PartId: 1268; Part Status: Active; Price: 0.02; Series: GJM; Size / Dimension: 0.024" L x 0.012" W (0.60mm x 0.30mm); Supplier 1: DigiKey; Supplier Part Number 1: 490-11182-1-ND; Thickness (Max): 0.013" (0.33mm); Voltage - Rated: 25V
footprint CAP 0201_0603
pins: 1, 2

## GJM0335C1E5R6CB01D
designator C?, comment 5.6pF
CAP CER 5.6PF 25V C0G/NP0 0201; Part Number: GJM0335C1E5R6CB01D; Manufacturer: Murata Electronics; Temperature Coefficient: C0G, NP0; Tolerance: ±0.25pF; Value: 5.6pF; Applications: RF, Microwave, High Frequency; Capacitance: 5.6pF; ComponentLink1Description: Datasheet; ComponentLink1URL: https://search.murata.co.jp/Ceramy/image/img/A01X/G101/ENG/GJM0335C1E5R6CB01-01.pdf; ComponentLink2Description: DigiKey Link; ComponentLink2URL: http://digikey.com/product-detail/en/murata-electronics/GJM0335C1E5R6CB01D/490-3073-1-ND/702339; Device Package: 0201 (0603 Metric); Features: High Q, Low Loss; LastUpdated: 9/2/2020 12:58:07 AM; Lifecycle Status: Active; Minimum Order: 1; Mounting Type: Surface Mount, MLCC; Operating Temperature: -55°C ~ 125°C; Package / Case: 0201 (0603 Metric); Packaging: TapeAndReel; PartId: 1523; Part Status: Active; Price: 0.01; Series: GJM; Size / Dimension: 0.024" L x 0.012" W (0.60mm x 0.30mm); Supplier 1: DigiKey; Supplier Part Number 1: 490-3073-1-ND; Thickness (Max): 0.013" (0.33mm); Voltage - Rated: 25V
footprint CAP 0201_0603
pins: 1, 2

## GJM0335C1E5R6WB01D
designator C?, comment 5.6pF
CAP CER 5.6PF 25V C0G/NP0 0201; Part Number: GJM0335C1E5R6WB01D; Manufacturer: Murata Electronics; Temperature Coefficient: C0G, NP0; Tolerance: ±0.05pF; Value: 5.6pF; Applications: RF, Microwave, High Frequency; Capacitance: 5.6pF; ComponentLink1Description: Datasheet; ComponentLink1URL: https://search.murata.co.jp/Ceramy/image/img/A01X/G101/ENG/GJM0335C1E5R6WB01-01.pdf; ComponentLink2Description: DigiKey Link; ComponentLink2URL: http://digikey.com/product-detail/en/murata-electronics/GJM0335C1E5R6WB01D/490-14785-1-ND/6606391; Device Package: 0201 (0603 Metric); Features: High Q, Low Loss; LastUpdated: 9/2/2020 12:58:13 AM; Lifecycle Status: Active; Minimum Order: 1; Mounting Type: Surface Mount, MLCC; Operating Temperature: -55°C ~ 125°C; Package / Case: 0201 (0603 Metric); Packaging: TapeAndReel; PartId: 1458; Part Status: Active; Price: 0.03; Series: GJM; Size / Dimension: 0.024" L x 0.012" W (0.60mm x 0.30mm); Supplier 1: DigiKey; Supplier Part Number 1: 490-14785-1-ND; Thickness (Max): 0.013" (0.33mm); Voltage - Rated: 25V
footprint CAP 0201_0603
pins: 1, 2

## GJM0335C1E5R7CB01D
designator C?, comment 5.7pF
CAP CER 5.7PF 25V C0G/NP0 0201; Part Number: GJM0335C1E5R7CB01D; Manufacturer: Murata Electronics; Temperature Coefficient: C0G, NP0; Tolerance: ±0.25pF; Value: 5.7pF; Applications: RF, Microwave, High Frequency; Capacitance: 5.7pF; ComponentLink1Description: Datasheet; ComponentLink1URL: https://search.murata.co.jp/Ceramy/image/img/A01X/G101/ENG/GJM0335C1E5R7CB01-01.pdf; ComponentLink2Description: DigiKey Link; ComponentLink2URL: http://digikey.com/product-detail/en/murata-electronics/GJM0335C1E5R7CB01D/490-17257-1-ND/7602256; Device Package: 0201 (0603 Metric); Features: High Q, Low Loss; LastUpdated: 9/2/2020 12:58:36 AM; Lifecycle Status: Active; Minimum Order: 1; Mounting Type: Surface Mount, MLCC; Operating Temperature: -55°C ~ 125°C; Package / Case: 0201 (0603 Metric); Packaging: TapeAndReel; PartId: 1206; Part Status: Active; Price: 0.01; Series: GJM; Size / Dimension: 0.024" L x 0.012" W (0.60mm x 0.30mm); Supplier 1: DigiKey; Supplier Part Number 1: 490-17257-1-ND; Thickness (Max): 0.013" (0.33mm); Voltage - Rated: 25V
footprint CAP 0201_0603
pins: 1, 2

## GJM0335C1E5R8CB01D
designator C?, comment 5.8pF
CAP CER 5.8PF 25V C0G/NP0 0201; Part Number: GJM0335C1E5R8CB01D; Manufacturer: Murata Electronics; Temperature Coefficient: C0G, NP0; Tolerance: ±0.25pF; Value: 5.8pF; Applications: RF, Microwave, High Frequency; Capacitance: 5.8pF; ComponentLink1Description: Datasheet; ComponentLink1URL: https://psearch.en.murata.com/capacitor/product/GJM0335C1E5R8CB01%23.pdf; ComponentLink2Description: DigiKey Link; ComponentLink2URL: http://digikey.com/product-detail/en/murata-electronics/GJM0335C1E5R8CB01D/490-17258-1-ND/7602257; Device Package: 0201 (0603 Metric); Features: High Q, Low Loss; LastUpdated: 9/2/2020 1:00:09 AM; Lifecycle Status: Active; Minimum Order: 1; Mounting Type: Surface Mount, MLCC; Operating Temperature: -55°C ~ 125°C; Package / Case: 0201 (0603 Metric); Packaging: TapeAndReel; PartId: 127; Part Status: Active; Price: 0.01; Series: GJM; Size / Dimension: 0.024" L x 0.012" W (0.60mm x 0.30mm); Supplier 1: DigiKey; Supplier Part Number 1: 490-17258-1-ND; Thickness (Max): 0.013" (0.33mm); Voltage - Rated: 25V
footprint CAP 0201_0603
pins: 1, 2

## GJM0335C1E5R9CB01D
designator C?, comment 5.9pF
CAP CER 5.9PF 25V C0G/NP0 0201; Part Number: GJM0335C1E5R9CB01D; Manufacturer: Murata Electronics; Temperature Coefficient: C0G, NP0; Tolerance: ±0.25pF; Value: 5.9pF; Applications: RF, Microwave, High Frequency; Capacitance: 5.9pF; ComponentLink1Description: Datasheet; ComponentLink1URL: https://psearch.en.murata.com/capacitor/product/GJM0335C1E5R9CB01%23.pdf; ComponentLink2Description: DigiKey Link; ComponentLink2URL: http://digikey.com/product-detail/en/murata-electronics/GJM0335C1E5R9CB01D/490-17259-1-ND/7602258; Device Package: 0201 (0603 Metric); Features: High Q, Low Loss; LastUpdated: 9/2/2020 12:58:33 AM; Lifecycle Status: Active; Minimum Order: 1; Mounting Type: Surface Mount, MLCC; Operating Temperature: -55°C ~ 125°C; Package / Case: 0201 (0603 Metric); Packaging: TapeAndReel; PartId: 1241; Part Status: Active; Price: 0.01; Series: GJM; Size / Dimension: 0.024" L x 0.012" W (0.60mm x 0.30mm); Supplier 1: DigiKey; Supplier Part Number 1: 490-17259-1-ND; Thickness (Max): 0.013" (0.33mm); Voltage - Rated: 25V
footprint CAP 0201_0603
pins: 1, 2

## GJM0335C1E6R0BB01D
designator C?, comment 6pF
CAP CER 6PF 25V C0G/NP0 0201; Part Number: GJM0335C1E6R0BB01D; Manufacturer: Murata Electronics; Temperature Coefficient: C0G, NP0; Tolerance: ±0.1pF; Value: 6pF; Applications: RF, Microwave, High Frequency; Capacitance: 6pF; ComponentLink1Description: Datasheet; ComponentLink1URL: https://search.murata.co.jp/Ceramy/image/img/A01X/G101/ENG/GJM0335C1E6R0BB01-01.pdf; ComponentLink2Description: DigiKey Link; ComponentLink2URL: http://digikey.com/product-detail/en/murata-electronics/GJM0335C1E6R0BB01D/490-14786-1-ND/6606392; Device Package: 0201 (0603 Metric); Features: High Q, Low Loss; LastUpdated: 9/2/2020 12:58:48 AM; Lifecycle Status: Active; Minimum Order: 1; Mounting Type: Surface Mount, MLCC; Operating Temperature: -55°C ~ 125°C; Package / Case: 0201 (0603 Metric); Packaging: TapeAndReel; PartId: 1067; Part Status: Active; Price: 0.01; Series: GJM; Size / Dimension: 0.024" L x 0.012" W (0.60mm x 0.30mm); Supplier 1: DigiKey; Supplier Part Number 1: 490-14786-1-ND; Thickness (Max): 0.013" (0.33mm); Voltage - Rated: 25V
footprint CAP 0201_0603
pins: 1, 2

## GJM0335C1E6R0CB01D
designator C?, comment 6pF
CAP CER 6PF 25V C0G/NP0 0201; Part Number: GJM0335C1E6R0CB01D; Manufacturer: Murata Electronics; Temperature Coefficient: C0G, NP0; Tolerance: ±0.25pF; Value: 6pF; Applications: RF, Microwave, High Frequency; Capacitance: 6pF; ComponentLink1Description: Datasheet; ComponentLink1URL: https://search.murata.co.jp/Ceramy/image/img/A01X/G101/ENG/GJM0335C1E6R0CB01-01.pdf; ComponentLink2Description: DigiKey Link; ComponentLink2URL: http://digikey.com/product-detail/en/murata-electronics/GJM0335C1E6R0CB01D/490-3074-1-ND/702340; Device Package: 0201 (0603 Metric); Features: High Q, Low Loss; LastUpdated: 9/2/2020 12:58:07 AM; Lifecycle Status: Active; Minimum Order: 1; Mounting Type: Surface Mount, MLCC; Operating Temperature: -55°C ~ 125°C; Package / Case: 0201 (0603 Metric); Packaging: TapeAndReel; PartId: 1531; Part Status: Active; Price: 0.01; Series: GJM; Size / Dimension: 0.024" L x 0.012" W (0.60mm x 0.30mm); Supplier 1: DigiKey; Supplier Part Number 1: 490-3074-1-ND; Thickness (Max): 0.013" (0.33mm); Voltage - Rated: 25V
footprint CAP 0201_0603
pins: 1, 2

## GJM0335C1E6R1CB01D
designator C?, comment 6.1pF
CAP CER 6.1PF 25V C0G/NP0 0201; Part Number: GJM0335C1E6R1CB01D; Manufacturer: Murata Electronics; Temperature Coefficient: C0G, NP0; Tolerance: ±0.25pF; Value: 6.1pF; Applications: RF, Microwave, High Frequency; Capacitance: 6.1pF; ComponentLink1Description: Datasheet; ComponentLink1URL: https://www.murata.com/~/media/webrenewal/support/library/catalog/products/capacitor/mlcc/c02e.ashx?la=en-us; ComponentLink2Description: DigiKey Link; ComponentLink2URL: http://digikey.com/product-detail/en/murata-electronics/GJM0335C1E6R1CB01D/490-17261-1-ND/7602260; Device Package: 0201 (0603 Metric); Features: High Q, Low Loss; LastUpdated: 9/2/2020 12:58:35 AM; Lifecycle Status: Active; Minimum Order: 1; Mounting Type: Surface Mount, MLCC; Operating Temperature: -55°C ~ 125°C; Package / Case: 0201 (0603 Metric); Packaging: TapeAndReel; PartId: 1216; Part Status: Active; Price: 0.01; Series: GJM; Size / Dimension: 0.024" L x 0.012" W (0.60mm x 0.30mm); Supplier 1: DigiKey; Supplier Part Number 1: 490-17261-1-ND; Thickness (Max): 0.013" (0.33mm); Voltage - Rated: 25V
footprint CAP 0201_0603
pins: 1, 2

## GJM0335C1E6R2BB01D
designator C?, comment 6.2pF
CAP CER 6.2PF 25V C0G/NP0 0201; Part Number: GJM0335C1E6R2BB01D; Manufacturer: Murata Electronics; Temperature Coefficient: C0G, NP0; Tolerance: ±0.1pF; Value: 6.2pF; Applications: RF, Microwave, High Frequency; Capacitance: 6.2pF; ComponentLink1Description: Datasheet; ComponentLink1URL: https://search.murata.co.jp/Ceramy/image/img/A01X/G101/ENG/GJM0335C1E6R2BB01-01.pdf; ComponentLink2Description: DigiKey Link; ComponentLink2URL: http://digikey.com/product-detail/en/murata-electronics/GJM0335C1E6R2BB01D/490-14787-1-ND/6606393; Device Package: 0201 (0603 Metric); Features: High Q, Low Loss; LastUpdated: 9/2/2020 12:58:30 AM; Lifecycle Status: Active; Minimum Order: 1; Mounting Type: Surface Mount, MLCC; Operating Temperature: -55°C ~ 125°C; Package / Case: 0201 (0603 Metric); Packaging: TapeAndReel; PartId: 1273; Part Status: Active; Price: 0.02; Series: GJM; Size / Dimension: 0.024" L x 0.012" W (0.60mm x 0.30mm); Supplier 1: DigiKey; Supplier Part Number 1: 490-14787-1-ND; Thickness (Max): 0.013" (0.33mm); Voltage - Rated: 25V
footprint CAP 0201_0603
pins: 1, 2

## GJM0335C1E6R2CB01D
designator C?, comment 6.2pF
CAP CER 6.2PF 25V C0G/NP0 0201; Part Number: GJM0335C1E6R2CB01D; Manufacturer: Murata Electronics; Temperature Coefficient: C0G, NP0; Tolerance: ±0.25pF; Value: 6.2pF; Applications: RF, Microwave, High Frequency; Capacitance: 6.2pF; ComponentLink1Description: Datasheet; ComponentLink1URL: https://search.murata.co.jp/Ceramy/image/img/A01X/G101/ENG/GJM0335C1E6R2CB01-01.pdf; ComponentLink2Description: DigiKey Link; ComponentLink2URL: http://digikey.com/product-detail/en/murata-electronics/GJM0335C1E6R2CB01D/490-3075-1-ND/702341; Device Package: 0201 (0603 Metric); Features: High Q, Low Loss; LastUpdated: 9/2/2020 1:00:17 AM; Lifecycle Status: Active; Minimum Order: 1; Mounting Type: Surface Mount, MLCC; Operating Temperature: -55°C ~ 125°C; Package / Case: 0201 (0603 Metric); Packaging: TapeAndReel; PartId: 24; Part Status: Active; Price: 0.01; Series: GJM; Size / Dimension: 0.024" L x 0.012" W (0.60mm x 0.30mm); Supplier 1: DigiKey; Supplier Part Number 1: 490-3075-1-ND; Thickness (Max): 0.013" (0.33mm); Voltage - Rated: 25V
footprint CAP 0201_0603
pins: 1, 2